# EAGLE library part MCP6042 (library Microchip-AON)
OAMP 14kHz LowPower 0,6uA G=1 stable OutCapLoad 70p/50k 10n/10k RailToRail VSS+0,4V VDD-0,5V
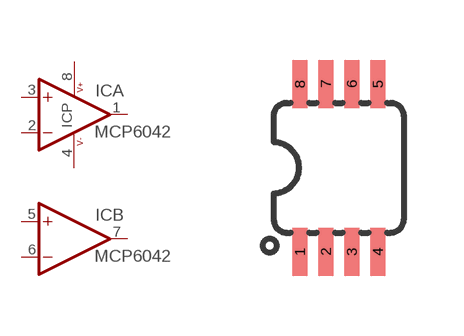
[diagram p1: symbol with the pads of MSOP-08; footprint MSOP-08]

Designator prefix IC; gates A=OPAMP B=OPAMP P=PWR+-

## MCP6042-I/MS  [MSOP-08]
1  A:OUT  out
2  A:-IN  in
3  A:+IN  in
4  P:V-  in
5  B:+IN  in
6  B:-IN  in
7  B:OUT  out
8  P:V+  in

## Footprint MSOP-08 (pad centres in mm)
Miini SOP 8 package, ADI RM-8
smd 0.38 x 1.2: 1 -1,-2.1; 2 -0.35,-2.1; 3 0.3,-2.1; 4 0.95,-2.1; 5 0.95,2.1; 6 0.3,2.1; 7 -0.35,2.1; 8 -1,2.1